# Altium footprint library Sensors.PcbLib: 4 footprints
Each footprint in its own frame and in the unit in brackets; x right, y up, seen from the top. Pads: shape width x height; smd on the part's side, far side on the other; paste and mask are expansions set on the pad; w line width, h text height; cw(c..) or ccw(c..) is an arc to the next point about the centre after c.
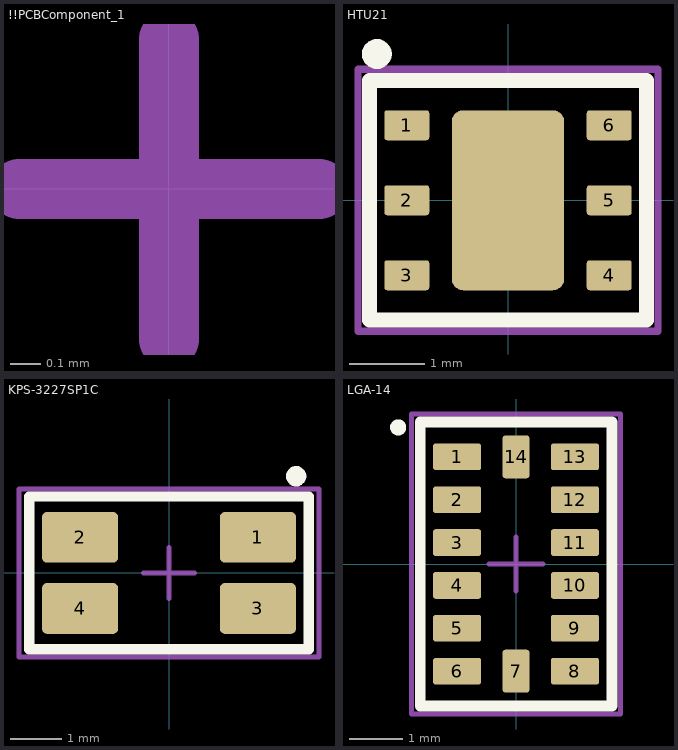
[diagram p0: the footprints below, top view; thin cyan lines are the x and y axes]

## !!PCBComponent_1 [mm]
M3_comm_top:
  text ".comment" at -0.9,-0.3 h1
M5_asm_top:
  text ".Designator" at -1,1.3 h1
M7_courtyard_top:
  lines w0.2: -0.5,0 0.5,0 ; 0,-0.5 0,0.5

## HTU21 [mm] "HPP845E034R5"
pads (7):
  rrect20% 0.6x0.4 smd: 1(-1.35,1) 2(-1.35,0) 3(-1.35,-1) 4(1.35,-1) 5(1.35,0) 6(1.35,1)
  rrect20% 1.5x2.4 smd: ""(0,0)
Top Overlay:
  circle w0.2: c-1.75,1.95 r0.1
  lines w0.2: -1.85,-1.6 1.85,-1.6 1.85,1.6 -1.85,1.6 -1.85,-1.6
Top Paste:
  region: 0.15,-0.568 -0.151,-0.568 -0.151,-0.035 0.15,-0.035
  region: -0.151,0.565 0.15,0.565 0.15,0.035 -0.151,0.035
M3_comm_top:
  text ".comment" at -0.9,-0.3 h1
M5_asm_top:
  lines w0.1: -1.85,-1.6 -1.85,1.6 1.85,1.6 1.85,-1.6 -1.85,-1.6
  lines w0.2: -1.68,1.941 cw(c-1.75,1.95) -1.679,1.95
  text ".Designator" at -1.075,1.875 h1
M7_courtyard_top:
  lines w0.1: -0.5,0 0.5,0 ; 0,-0.5 0,0.5 ; -2,-1.75 -2,1.75 2,1.75 2,-1.75 -2,-1.75
3D body "User Library-HTU21.STEP": height 0.95, standoff 0.04, extent -1.501,-1.5 1.501,1.5

## KPS-3227SP1C [mm] "KPS-3227SP1C"
pads (4):
  rrect20% 1.5x1 smd: 1(1.75,0.7) 2(-1.75,0.7) 3(1.75,-0.7) 4(-1.75,-0.7)
Top Overlay:
  circle w0.2: c2.5,1.9 r0.1
  lines w0.2: -2.75,-1.5 2.75,-1.5 2.75,1.5 -2.75,1.5 -2.75,-1.5
Top Paste:
  region: 0.15,-0.568 -0.151,-0.568 -0.151,-0.035 0.15,-0.035
  region: -0.151,0.565 0.15,0.565 0.15,0.035 -0.151,0.035
M3_comm_top:
  text ".comment" at -0.9,-0.3 h1
M5_asm_top:
  lines w0.1: -2.75,-1.5 -2.75,1.5 2.75,1.5 2.75,-1.5 -2.75,-1.5
  lines w0.15: 2.589,1.887 cw(c2.5,1.9) 2.59,1.9
  text ".Designator" at -1.825,1.9 h1
M7_courtyard_top:
  lines w0.1: -0.5,0 0.5,0 ; 0,-0.5 0,0.5 ; -2.95,-1.65 -2.95,1.65 2.95,1.65 2.95,-1.65 -2.95,-1.65
3D body "User Library-KPS-3227SP1C.STEP": height 1.12, standoff 0, extent -1.6,-1.35 1.6,1.35

## LGA-14 [mm] "LSM303DLHC"
pads (14):
  rrect20% 0.9x0.5 smd: 1(-1.1,2) 2(-1.1,1.2) 3(-1.1,0.4) 4(-1.1,-0.4) 5(-1.1,-1.2) 6(-1.1,-2) 8(1.1,-2) 9(1.1,-1.2) 10(1.1,-0.4) 11(1.1,0.4) 12(1.1,1.2) 13(1.1,2)
  rrect20% 0.5x0.8 smd: 7(0,-2) 14(0,2)
Top Overlay:
  circle w0.2: c-2.2,2.55 r0.05
  lines w0.2: -1.79,-2.65 1.79,-2.65 1.79,2.65 -1.79,2.65 -1.79,-2.65
M3_comm_top:
  text ".comment" at -0.95,0.013 h1
M5_asm_top:
  circle w0.15: c-2.2,2.55 r0.05
  lines w0.1: -1.79,-2.65 1.79,-2.65 1.79,2.65 -1.79,2.65 -1.79,-2.65
  text ".Designator" at -1.25,3.125 h1
M7_courtyard_top:
  lines w0.1: -0.5,0 0.5,0 ; 0,-0.5 0,0.5 ; -1.95,-2.8 -1.95,2.8 1.95,2.8 1.95,-2.8 -1.95,-2.8
3D body "User Library-LGA-14.STEP": height 1.03, standoff -0.4, extent -1.5,-2.5 1.5,2.5